# EAGLE library part CD4007UBE (library mb_ics)
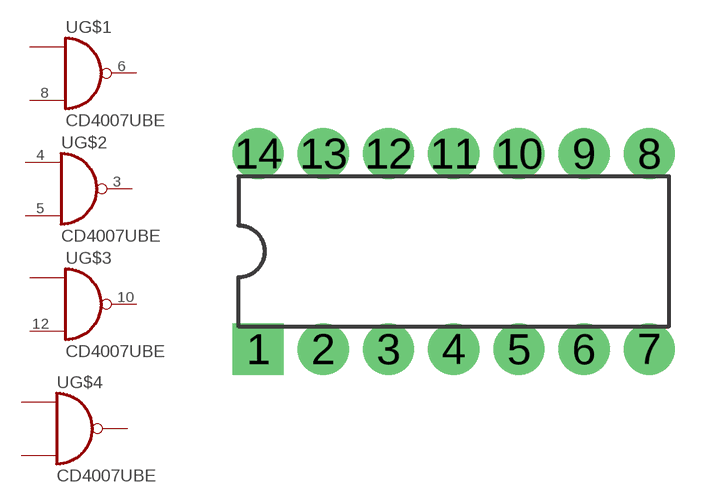
[diagram p28: symbol with the pads of DIL14; footprint DIL14]

Designator prefix -; gates G$1=CD4007UBE G$2=CD4007UBE G$3=CD4007UBE G$4=CD4007UBE

## CD4007UBE  [DIL14]
3  G$2:G  out
4  G$2:S  in
5  G$2:D  in
6  G$1:G  out
8  G$1:D  in
10  G$3:G  out
12  G$3:D  in

## Footprint DIL14 (pad centres in mm)
Dual In Line Package
drill 1 pad 2 square: 1 -7.62,-3.81
drill 1 pad 2: 2 -5.08,-3.81; 3 -2.54,-3.81; 4 0,-3.81; 5 2.54,-3.81; 6 5.08,-3.81; 7 7.62,-3.81; 8 7.62,3.81; 9 5.08,3.81; 10 2.54,3.81; 11 0,3.81; 12 -2.54,3.81; 13 -5.08,3.81; 14 -7.62,3.81